# Altium footprint library RPSLib_Oscillators.PcbLib: 11 footprints
Each footprint in its own frame and in the unit in brackets; x right, y up, seen from the top. Pads: shape width x height; smd on the part's side, far side on the other; paste and mask are expansions set on the pad; w line width, h text height; cw(c..) or ccw(c..) is an arc to the next point about the centre after c.
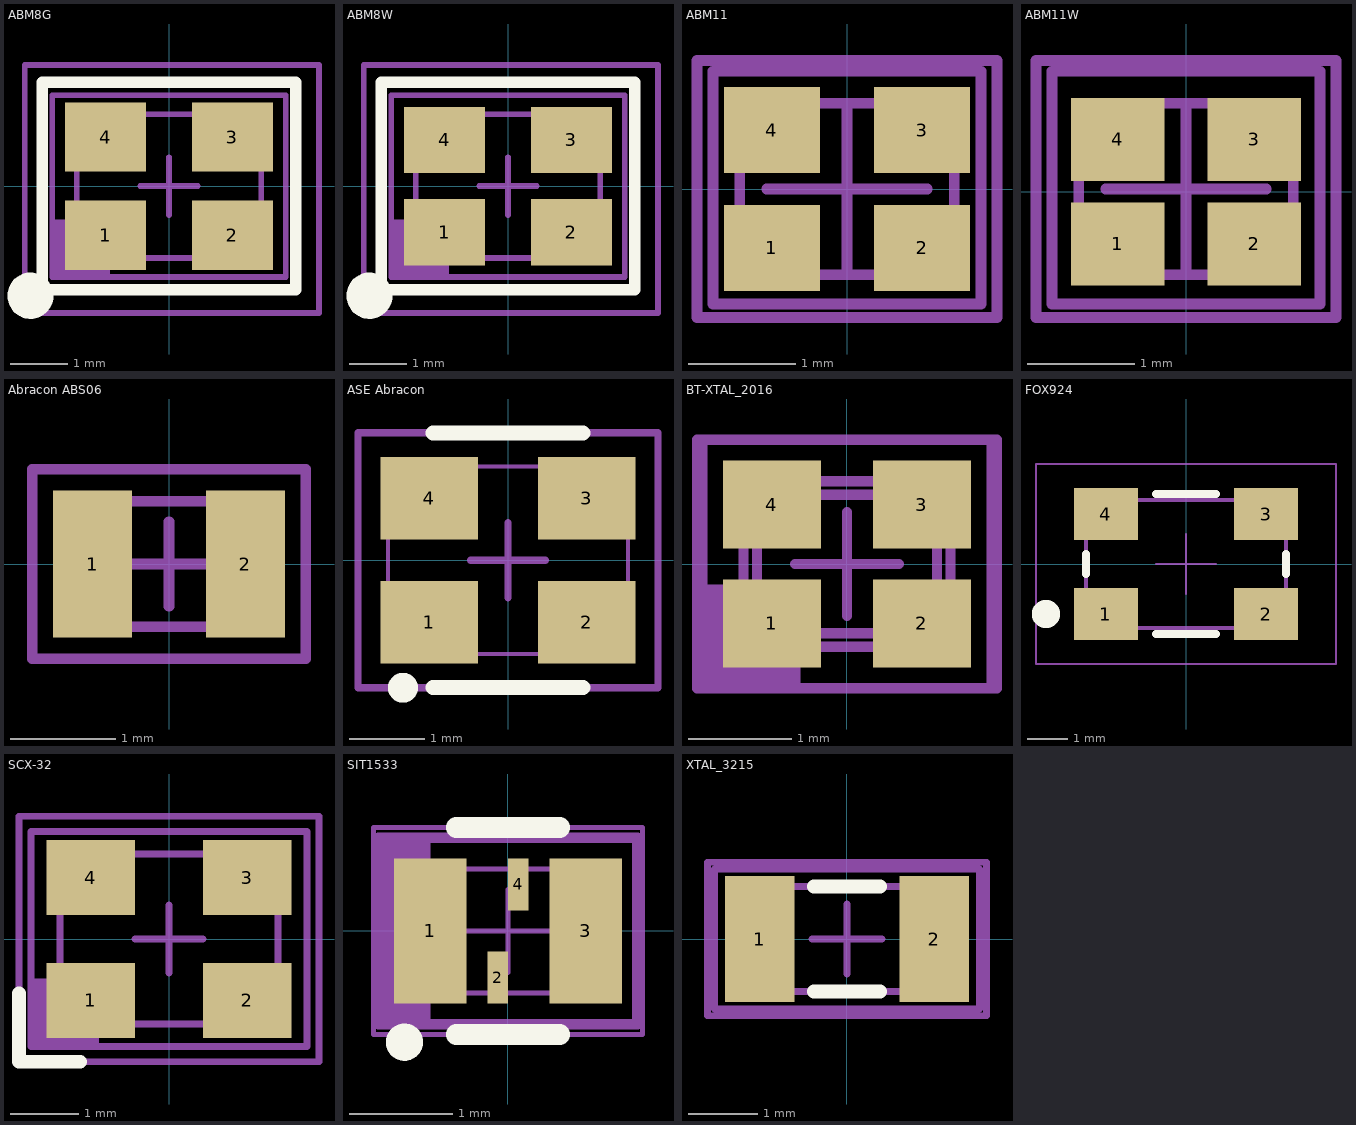
[diagram p0: the footprints below, top view; thin cyan lines are the x and y axes]

## ABM8G [mm] "Abracon ABM8G Crystal"
height 1
pads (4):
  rect 1.4x1.2 smd mask+0.07: 1(-1.1,-0.85) 2(1.1,-0.85) 3(1.1,0.85) 4(-1.1,0.85)
Top Overlay:
  circle w0.4: c-2.4,-1.9 r0.2
  lines w0.2: -2.2,-1.8 2.2,-1.8 2.2,1.8 -2.2,1.8 -2.2,-1.8
Mechanical 1:
  rectangle: -2.025,-1.577 -1.025,-0.577
  lines w0.1: -2.025,-1.577 2.025,-1.577 2.025,1.575 -2.025,1.575 -2.025,-1.577
  text ".Designator" at -1.126,-0.113 h0.5
Mechanical 13:
  lines w0.1: -1.6,-1.245 1.6,-1.245 1.6,1.245 -1.6,1.245 -1.6,-1.245
Mechanical 15:
  lines w0.1: -0.5,0 0.5,0 ; 0,-0.5 0,0.5 ; -2.5,-2.2 2.6,-2.2 2.6,2.1 -2.5,2.1 -2.5,-2.2
3D body "ABM8G.stp": height 0.99, standoff 0, extent -1.6,-1.245 1.6,1.245

## ABM8W [mm] "Abracon ABM8W Crystal"
height 0.75
pads (4):
  rect 1.4x1.15 smd: 1(-1.1,-0.8) 2(1.1,-0.8) 3(1.1,0.8) 4(-1.1,0.8)
Top Overlay:
  circle w0.4: c-2.4,-1.9 r0.2
  lines w0.2: -2.2,-1.8 -2.2,1.8 2.2,1.8 2.2,-1.8 -2.2,-1.8
Mechanical 1:
  rectangle: -2.025,-1.577 -1.025,-0.577
  lines w0.1: -2.025,-1.577 -2.025,1.575 2.025,1.575 2.025,-1.577 -2.025,-1.577
  text ".Designator" at -1.126,-0.113 h0.5
Mechanical 13:
  lines w0.1: -1.6,-1.245 -1.6,1.245 1.6,1.245 1.6,-1.245 -1.6,-1.245
Mechanical 15:
  lines w0.1: -0.5,0 0.5,0 ; 0,-0.5 0,0.5 ; -2.5,-2.2 -2.5,2.1 2.6,2.1 2.6,-2.2 -2.5,-2.2
3D body "ABM8G.stp": height 0.99, standoff 0, extent -1.6,-1.245 1.6,1.245

## ABM11 [mm] "ABM11 Crystal"
height 0.5
pads (4):
  rect 0.9x0.8 smd mask+0.07: 1(-0.7,-0.55) 2(0.7,-0.55) 3(0.7,0.55) 4(-0.7,0.55)
Mechanical 1:
  lines w0.1: -1.25,-1.074 1.25,-1.074 1.25,1.1 -1.25,1.1 -1.25,-1.074
  text ".Designator" at -1.126,-0.138 h0.5
Mechanical 3:
  lines w0.1: -0.75,0 0.75,0 ; 0,-0.75 0,0.75
Mechanical 13:
  lines w0.1: -1,-0.8 1,-0.8 1,0.8 -1,0.8 -1,-0.8
Mechanical 15:
  lines w0.1: -1.4,-1.2 1.4,-1.2 1.4,1.2 -1.4,1.2 -1.4,-1.2
3D body "ABM11.stp": height 0.59, standoff 0, extent -1,-0.8 1,0.8

## ABM11W [mm] "ABM11W LOW PROFILE QUARTZ CRYSTAL"
height 0.5
pads (4):
  rect 0.875x0.775 smd mask+0.07: 1(-0.637,-0.487) 2(0.637,-0.487) 3(0.637,0.487) 4(-0.637,0.487)
Mechanical 1:
  lines w0.1: -1.25,-1.049 -1.25,1.125 1.25,1.125 1.25,-1.049 -1.25,-1.049
  text ".Designator" at -1.126,-0.113 h0.5
Mechanical 3:
  lines w0.1: -0.75,0.025 0.75,0.025 ; 0,-0.725 0,0.775
Mechanical 13:
  lines w0.1: -1,-0.775 -1,0.825 1,0.825 1,-0.775 -1,-0.775
Mechanical 15:
  lines w0.1: -1.4,-1.175 -1.4,1.225 1.4,1.225 1.4,-1.175 -1.4,-1.175
3D body "ABM11.stp": height 0.59, standoff 0, extent -1,-0.775 1,0.825

## Abracon ABS06 [mm]
height 0.6
pads (2):
  rect 0.75x1.4 smd mask+0.07: 1(-0.725,0) 2(0.725,0)
Mechanical 13:
  lines w0.1: -1.003,-0.597 1.003,-0.597 1.003,0.597 -1.003,0.597 -1.003,-0.597
Mechanical 15:
  lines w0.1: -0.4,0 0.4,0 ; 0,-0.4 0,0.4 ; -1.3,-0.9 -1.3,0.9 1.3,0.9 1.3,-0.9 -1.3,-0.9
3D body "ABS06_norm.stp": height 0.61, standoff 0, extent -1.003,-0.597 1.003,0.597

## ASE Abracon [mm]
height 1.2
pads (4):
  rect 1.3x1.1 smd mask+0.07: 1(-1.05,-0.825) 2(1.05,-0.825) 3(1.05,0.825) 4(-1.05,0.825)
Top Overlay:
  circle w0.2: c-1.4,-1.7 r0.1
  lines w0.2: -1,-1.7 1,-1.7 ; -1,1.7 1,1.7
Mechanical 13:
  lines w0.05: -1.6,-1.25 1.6,-1.25 1.6,1.25 -1.6,1.25 -1.6,-1.25
Mechanical 15:
  lines w0.1: -0.5,0 0.5,0 ; 0,-0.5 0,0.5 ; -2,-1.7 -2,1.7 2,1.7 2,-1.7 -2,-1.7
3D body "ASE.stp": height 1.2, standoff 0, extent -1.6,-1.25 1.6,1.25

## BT-XTAL_2016 [mm] "Crystal 2.0 x 1.6 mm"
height 0.5
pads (4):
  rect 0.95x0.85 smd: 1(-0.725,-0.575) 2(0.725,-0.575) 3(0.725,0.575) 4(-0.725,0.575)
Mechanical 1:
  rectangle: -1.45,-1.2 -0.45,-0.2
  lines w0.1: -1.45,-1.2 -1.45,1.2 1.45,1.2 1.45,-1.2 -1.45,-1.2
  text ".Designator" at -2.253,-0.227 h1
Mechanical 13:
  lines w0.1: -1,-0.7 cw(c-1,-0.8) -0.9,-0.8 0.9,-0.8 cw(c1,-0.8) 1,-0.7 1,0.7 cw(c1,0.8) 0.9,0.8 -0.9,0.8 cw(c-1,0.8) -1,0.7 -1,-0.7 ; -0.87,-0.57 ccw(c-0.77,-0.57) -0.77,-0.67 0.77,-0.67 ccw(c0.77,-0.57) 0.87,-0.57 0.87,0.57 ccw(c0.77,0.57) 0.77,0.67 -0.77,0.67 ccw(c-0.77,0.57) -0.87,0.57 -0.87,-0.57
Mechanical 15:
  lines w0.1: -0.5,0 0.5,0 ; 0,-0.5 0,0.5 ; -1.4,-1.2 -1.4,1.2 1.4,1.2 1.4,-1.2 -1.4,-1.2
3D body "User Library-GeyerElectronics_KX5.step": height 0.56, standoff 0, extent -1.05,-0.85 1.05,0.85
3D body: height 0.56, standoff 0.15, extent -0.7,-0.65 0.7,0.65

## FOX924 [mm] "Ultra Miniature SMD TCXO, 5x7mm"
height 1.5
pads (4):
  rect 1.6x1.3 smd paste-0.05: 1(-2,-1.25) 2(2,-1.25) 3(2,1.25) 4(-2,1.25)
Top Overlay:
  circle w0.508: c-3.5,-1.25 r0.1
  lines w0.2: -2.5,-0.25 -2.5,0.25 ; -0.75,-1.75 0.75,-1.75 ; -0.75,1.75 0.75,1.75 ; 2.5,-0.25 2.5,0.25
Mechanical 13:
  lines w0.1: -2.5,-1.6 -2.5,1.6 2.5,1.6 2.5,-1.6 -2.5,-1.6
Mechanical 15:
  lines w0.05: -0.75,0 0.75,0 ; 0,-0.75 0,0.75 ; -3.75,-2.5 3.75,-2.5 3.75,2.5 -3.75,2.5 -3.75,-2.5
3D body "FOX-924.stp": height 1.5, standoff 0, extent -2.5,-1.6 2.5,1.6

## SCX-32 [mm] "ECS Inc SCX-32 Crystall"
height 0.8
pads (4):
  rect 1.3x1.1 smd: 1(-1.15,-0.9) 2(1.15,-0.9) 3(1.15,0.9) 4(-1.15,0.9)
Top Overlay:
  lines w0.2: -2.2,-0.8 -2.2,-1.8 -1.3,-1.8
Mechanical 1:
  rectangle: -2.025,-1.577 -1.025,-0.577
  lines w0.1: -2.025,-1.577 2.025,-1.577 2.025,1.575 -2.025,1.575 -2.025,-1.577
  text ".Designator" at -1.126,-0.113 h0.5
Mechanical 13:
  lines w0.1: -1.6,-1.245 1.6,-1.245 1.6,1.245 -1.6,1.245 -1.6,-1.245
Mechanical 15:
  lines w0.1: -0.5,0 0.5,0 ; 0,-0.5 0,0.5 ; -2.2,-1.8 2.2,-1.8 2.2,1.8 -2.2,1.8 -2.2,-1.8
3D body "User Library-Crystal_ECX-32.STEP": height 0.82, standoff 0, extent -1.6,-1.25 1.6,1.25

## SIT1533 [mm]
height 0.6
pads (4):
  rect 0.7x1.4 smd mask+0.07: 1(-0.75,0) 3(0.75,0)
  rect 0.2x0.5 smd mask+0.07: 2(-0.1,-0.45) 4(0.1,0.45)
Top Overlay:
  circle w0.2: c-1,-1.075 r0.08
  lines w0.2: -0.5,-1 0.5,-1 ; -0.5,1 0.5,1
Mechanical 1:
  rectangle: -1.25,-0.9 -0.75,0.9
  lines w0.1: -1.25,-0.9 1.25,-0.9 1.25,0.9 -1.25,0.9 -1.25,-0.9
  text ".Designator" at -1.126,-0.113 h0.5
Mechanical 13:
  lines w0.05: -1,-0.6 -1,0.6 1,0.6 1,-0.6 -1,-0.6
Mechanical 15:
  lines w0.05: -0.4,0 0.4,0 ; 0,-0.4 0,0.4 ; -1.3,-1 -1.3,1 1.3,1 1.3,-1 -1.3,-1
3D body "SIT1533.stp": height 0.6, standoff 0, extent -1,-0.6 1,0.6

## XTAL_3215 [mm]
pads (2):
  rect 1x1.8 smd: 1(-1.25,0) 2(1.25,0)
Top Overlay:
  lines w0.2: -0.475,-0.75 0.475,-0.75 ; -0.475,0.75 0.475,0.75
Mechanical 1:
  lines w0.1: -1.9,-1 -1.9,1 1.9,1 1.9,-1 -1.9,-1
  text ".Designator" at -2.253,-0.227 h1
Mechanical 3:
  lines w0.1: -1.6,-0.55 cw(c-1.6,-0.75) -1.4,-0.75 1.4,-0.75 cw(c1.6,-0.75) 1.6,-0.55 1.6,0.55 cw(c1.6,0.75) 1.4,0.75 -1.4,0.75 cw(c-1.6,0.75) -1.6,0.55 -1.6,-0.55
Mechanical 15:
  lines w0.1: -0.5,0 0.5,0 ; 0,-0.5 0,0.5 ; -2,-1.1 -2,1.1 2,1.1 2,-1.1 -2,-1.1
3D body: height 0.81, standoff 0.15, extent -1.2,-0.6 1.2,0.6
3D body "User Library-Siward_SX3215.step": height 0.81, standoff 0, extent -1.6,-0.75 1.6,0.75